# EAGLE library part DAC7811 (library ICs)
12-Bit, Serial Input, Multiplying Digital to Analog Converter
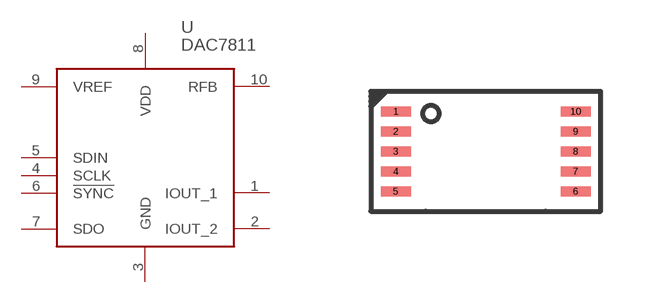
[diagram p84: symbol with the pads of SSOP10; footprint SSOP10]

Designator prefix U

## DAC7811 (DIGIKEY: 296-19660-1-ND; PRICE_PER: 4.23; VALUE: DAC7811)  [SSOP10]
1  IOUT_1
2  IOUT_2
3  GND
4  SCLK
5  SDIN
6  !SYNC
7  SDO
8  VDD
9  VREF
10  RFB

## Footprint SSOP10 (pad centres in mm)
smd 0.75 x 0.25: 1 -2.25,1; 2 -2.25,0.5; 3 -2.25,0; 4 -2.25,-0.5; 5 -2.25,-1; 6 2.25,-1; 7 2.25,-0.5; 8 2.25,0; 9 2.25,0.5; 10 2.25,1